# Altium schematic symbol library SCD41.SchLib: 1 symbol
Pins are listed as number, name and electrical type; pins without a type are passive.

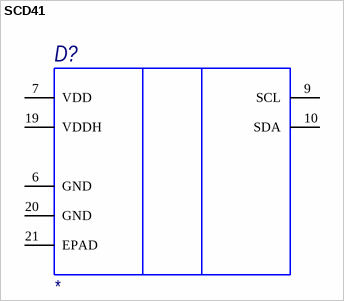
[diagram p0: symbol SCD41]

## SCD41
designator D?
Value: *
pins: 6 GND, 7 VDD, 9 SCL, 10 SDA, 19 VDDH, 20 GND, 21 EPAD